# Altium schematic symbol library UCC27211DDAR.Schlib: 1 symbol
Pins are listed as number, name and electrical type; pins without a type are passive.

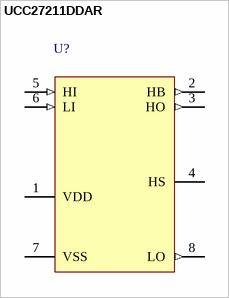
[diagram p0: symbol UCC27211DDAR]

## UCC27211DDAR
designator U?
pins: 1 VDD (power), 2 HB (out), 3 HO (out), 4 HS (power), 5 HI (in), 6 LI (in), 7 VSS (power), 8 LO (out)